# Altium footprint library Amps.PcbLib: 1 footprints
Each footprint in its own frame and in the unit in brackets; x right, y up, seen from the top. Pads: shape width x height; smd on the part's side, far side on the other; paste and mask are expansions set on the pad; w line width, h text height; cw(c..) or ccw(c..) is an arc to the next point about the centre after c.
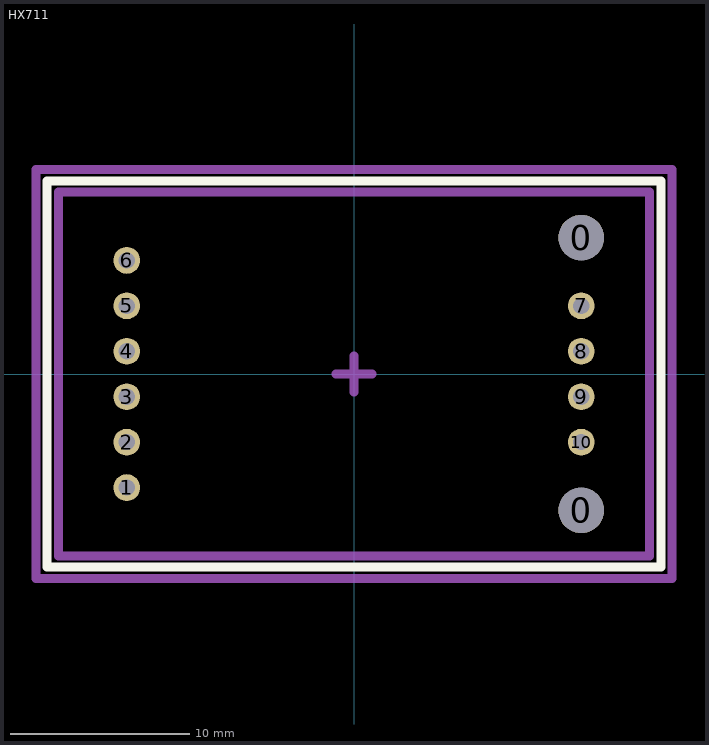
[diagram p0: the footprint, top view; thin cyan lines are the x and y axes]

## HX711 [mm]
pads (12):
  round 2.54 hole 2.54: 0(12.7,-7.62) 0(12.7,7.62)
  round 1.5 hole 0.9: 1(-12.7,-6.35) 2(-12.7,-3.81) 3(-12.7,-1.27) 4(-12.7,1.27) 5(-12.7,3.81) 6(-12.7,6.35) 7(12.7,3.81) 8(12.7,1.27) 9(12.7,-1.27) 10(12.7,-3.81)
Top Overlay:
  lines w0.5: -17.145,-10.795 -17.145,10.795 17.145,10.795 17.145,-10.795 -17.145,-10.795
Mechanical 13:
  lines w0.5: -16.51,-10.16 16.51,-10.16 16.51,10.16 -16.51,10.16 -16.51,-10.16
Mechanical 15:
  lines w0.5: -1,0 0,0 ; 0,-1 0,0 ; 0,1 0,0 ; 1,0 0,0 ; -17.78,-11.43 17.78,-11.43 17.78,11.43 -17.78,11.43 -17.78,-11.43
3D body: height 11, standoff 9.5, extent -17.145,-10.478 17.145,10.477
3D body: height 9.5, standoff 0, extent 11.43,-5.08 13.97,5.08
3D body: height 9.5, standoff 0, extent -13.97,-7.62 -11.43,7.62